# Altium footprint library PEC11H4020FS0016.PcbLib: 1 footprints
Each footprint in its own frame and in the unit in brackets; x right, y up, seen from the top. Pads: shape width x height; smd on the part's side, far side on the other; paste and mask are expansions set on the pad; w line width, h text height; cw(c..) or ccw(c..) is an arc to the next point about the centre after c.
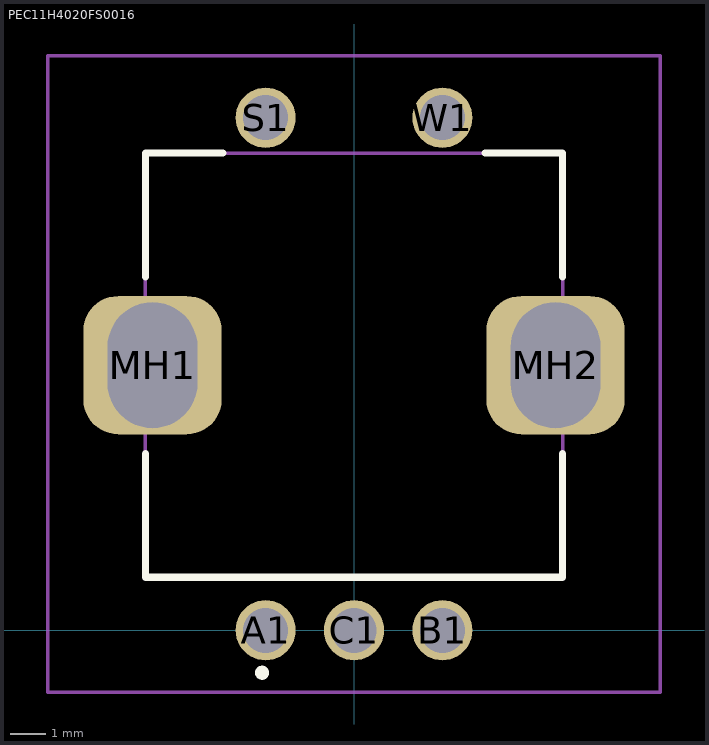
[diagram p0: the footprint, top view; thin cyan lines are the x and y axes]

## PEC11H4020FS0016 [mm]
pads (7):
  round 1.702 hole 1.27: A1(-2.5,0) B1(2.5,0) C1(0,0) S1(-2.5,14.5) W1(2.5,14.5)
  rrect50% 3.915x3.915 hole 2.54 slot 3.556 at 90 deg: MH1(-5.7,7.5) MH2(5.7,7.5)
Top Overlay:
  lines w0.2: -5.9,5 -5.9,1.5 5.9,1.5 5.9,5 ; -5.9,10 -5.9,13.5 -3.7,13.5 ; 3.7,13.5 5.9,13.5 5.9,10 ; -2.7,-1.2 cw(c-2.6,-1.2) -2.5,-1.2 cw(c-2.6,-1.2) -2.7,-1.2
Mechanical 15:
  lines w0.1: -5.9,1.5 5.9,1.5 5.9,13.5 -5.9,13.5 -5.9,1.5
Mechanical 20:
  lines w0.1: -8.658,-1.75 8.657,-1.75 8.657,16.25 -8.658,16.25 -8.658,-1.75